# Altium schematic symbol library CONN(2.54mm, 2x15, 30-POS, DUAL-EDGE, RA, TH).SchLib: 1 symbol
Pins are listed as number, name and electrical type; pins without a type are passive.

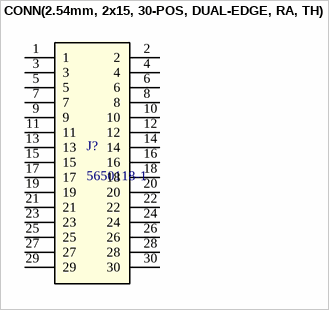
[diagram p0: symbol CONN(2.54mm, 2x15, 30-POS, DUAL-EDGE, RA, TH)]

## CONN(2.54mm, 2x15, 30-POS, DUAL-EDGE, RA, TH)
designator J?, comment 5650118-1
Conn Card Edge SKT 30 POS 2.54mm Solder RA Thru-Hole Tray; Manufacturer: TE Connectivity; Manufacturer_PN: 5650118-1; Package: TH; Datasheet: https://www.te.com/commerce/DocumentDelivery/DDEController?Action=srchrtrv&DocNm=1773096_SEC03_CARD_EDGE&DocType=CS&DocLang=English; Digikey_Link: https://www.digikey.it/en/products/detail/te-connectivity-amp-connectors/5650118-1/2135730?s=N4IgTCBcDaIKwDY4AYCMqAcBaVIC6AvkA
footprint TE_5650118-1
pins: 1, 2, 3, 4, 5, 6, 7, 8, 9, 10, 11, 12, 13, 14, 15, 16, 17, 18, 19, 20, 21, 22, 23, 24, 25, 26, 27, 28, 29, 30